# EAGLE library part CON-RJ45-F (library dp_devices)
HR911105A Female Ethernet RJ-45 with internal transformer and 2 LEDs
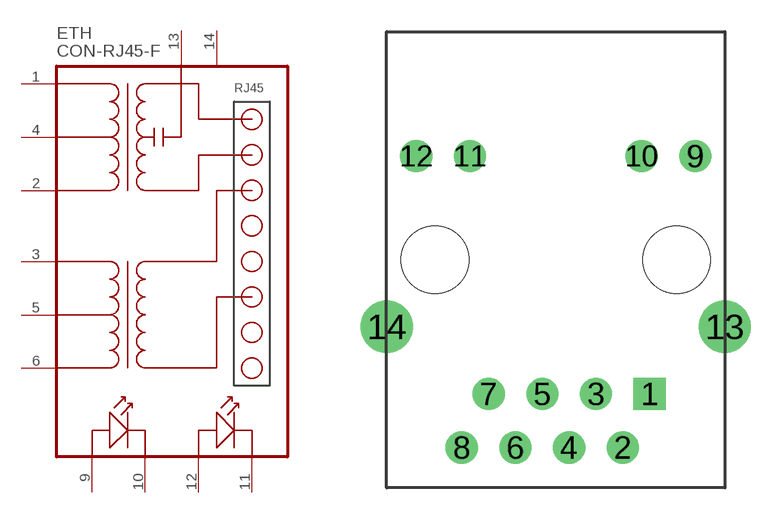
[diagram p2: symbol with the pads of HR911105A; footprint HR911105A]

Designator prefix ETH

## CON-RJ45-F  [HR911105A]
1  1
2  2
3  3
4  4
5  5
6  6
9  9
10  10
11  11
12  12
13  13
14  14

## Footprint HR911105A (pad centres in mm)
drill 0.813 pad 1.524 square: 1 4.445,-6.35
drill 0.813 pad 1.524 round: 2 3.175,-8.89; 3 1.905,-6.35; 4 0.635,-8.89; 5 -0.635,-6.35; 6 -1.905,-8.89; 7 -3.175,-6.35; 8 -4.445,-8.89; 9 6.604,4.902; 10 4.064,4.902; 11 -4.064,4.902; 12 -6.604,4.902
drill 1.651 pad 2.159 round: 13 8.001,-3.175; 14 -8.001,-3.175
hole 3.2 at 5.715,0
hole 3.2 at -5.715,0